# EAGLE library part ATTINY-85 (library ncue_ee)
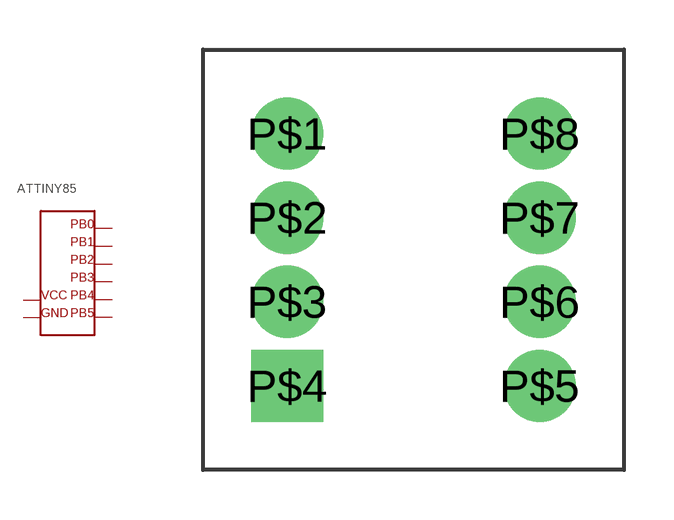
[diagram p2: symbol with the pads of 8-PIN-PDIP; footprint 8-PIN-PDIP]

Designator prefix ATTINY85

## ATTINY-85  [8-PIN-PDIP]
P$1  P$1
P$2  P$2
P$3  P$3
P$4  P$4
P$5  P$5
P$6  P$6
P$7  P$7
P$8  P$8

## Footprint 8-PIN-PDIP (pad centres in mm)
drill 1.016 pad 2.184: P$1 0,0; P$2 0,-2.54; P$3 0,-5.08; P$5 7.62,-7.62; P$6 7.62,-5.08; P$7 7.62,-2.54; P$8 7.62,0
drill 1.016 pad 2.184 square: P$4 0,-7.62